# Altium schematic symbol library Intelliclone.SchLib: 488 symbols (part 3 of 6)
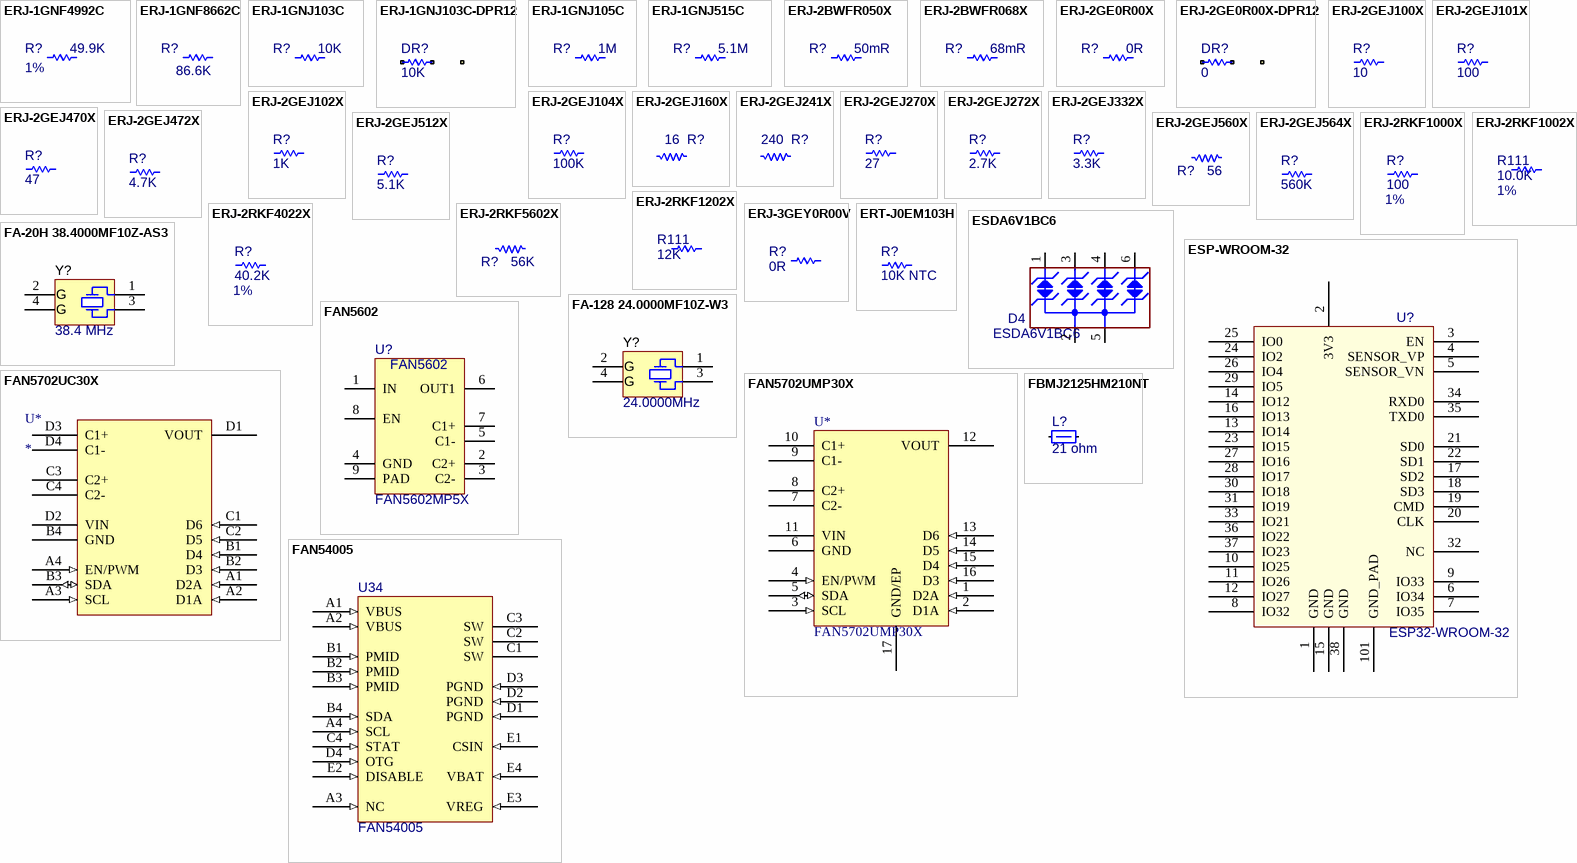
[diagram p23: symbols ERJ-1GNF4992C to FBMJ2125HM210NT]

## FAN54005
designator U34
IC LI-ION SW CHARGER USB 20WLCSP; Manufacturer 1: ON Semiconductor; Manufacturer Part Number 1: FAN54005UCX; CMT Part Number: 100220; Supplier 1: Digi-Key; Supplier Part Number 1: FAN54005UCXCT-ND; Supplier 2: Mouser; Supplier Part Number 2: 512-FAN54005UCX; Value: FAN54005
footprint BGA20C40P4X5_194X219X62 (BGA, 20-Leads, Body 1.94x2.19mmx0.63mm, Pitch 0.40mm)
pins: A1 VBUS (in), A2 VBUS (in), A3 NC (in), A4 SCL (in), B1 PMID (in), B2 PMID (in), B3 PMID (in), B4 SDA (in), C1 SW, C2 SW, C3 SW, C4 STAT (in), D1 PGND (in), D2 PGND (in), D3 PGND (in), D4 OTG (in), E1 CSIN (in), E2 DISABLE (in), E3 VREG (in), E4 VBAT (in)

## FBMJ2125HM210NT
designator L?, comment 21 ohm
FERRITE BEAD 21 OHM 0805 1LN; Manufacturer Part Number 1: FBMJ2125HM210NT; Manufacturer 1: Taiyo Yuden; Imax_A: 6; DCR_ohm: 0.004; CompType: Ferrite Bead; ComponentLink1Description: Datasheet link; ComponentLink1URL: http://www.yuden.co.jp/us/product/pdf/efbm_e.pdf; Supplier 1: Digi-Key; Supplier Part Number 1: 587-3848-1-ND; Value: 21 ohm
footprint 0805_HV (0805 with 30mil clearance between pads)
footprint 0805
footprint 0805M
footprint 0805L
pins: 1, 2

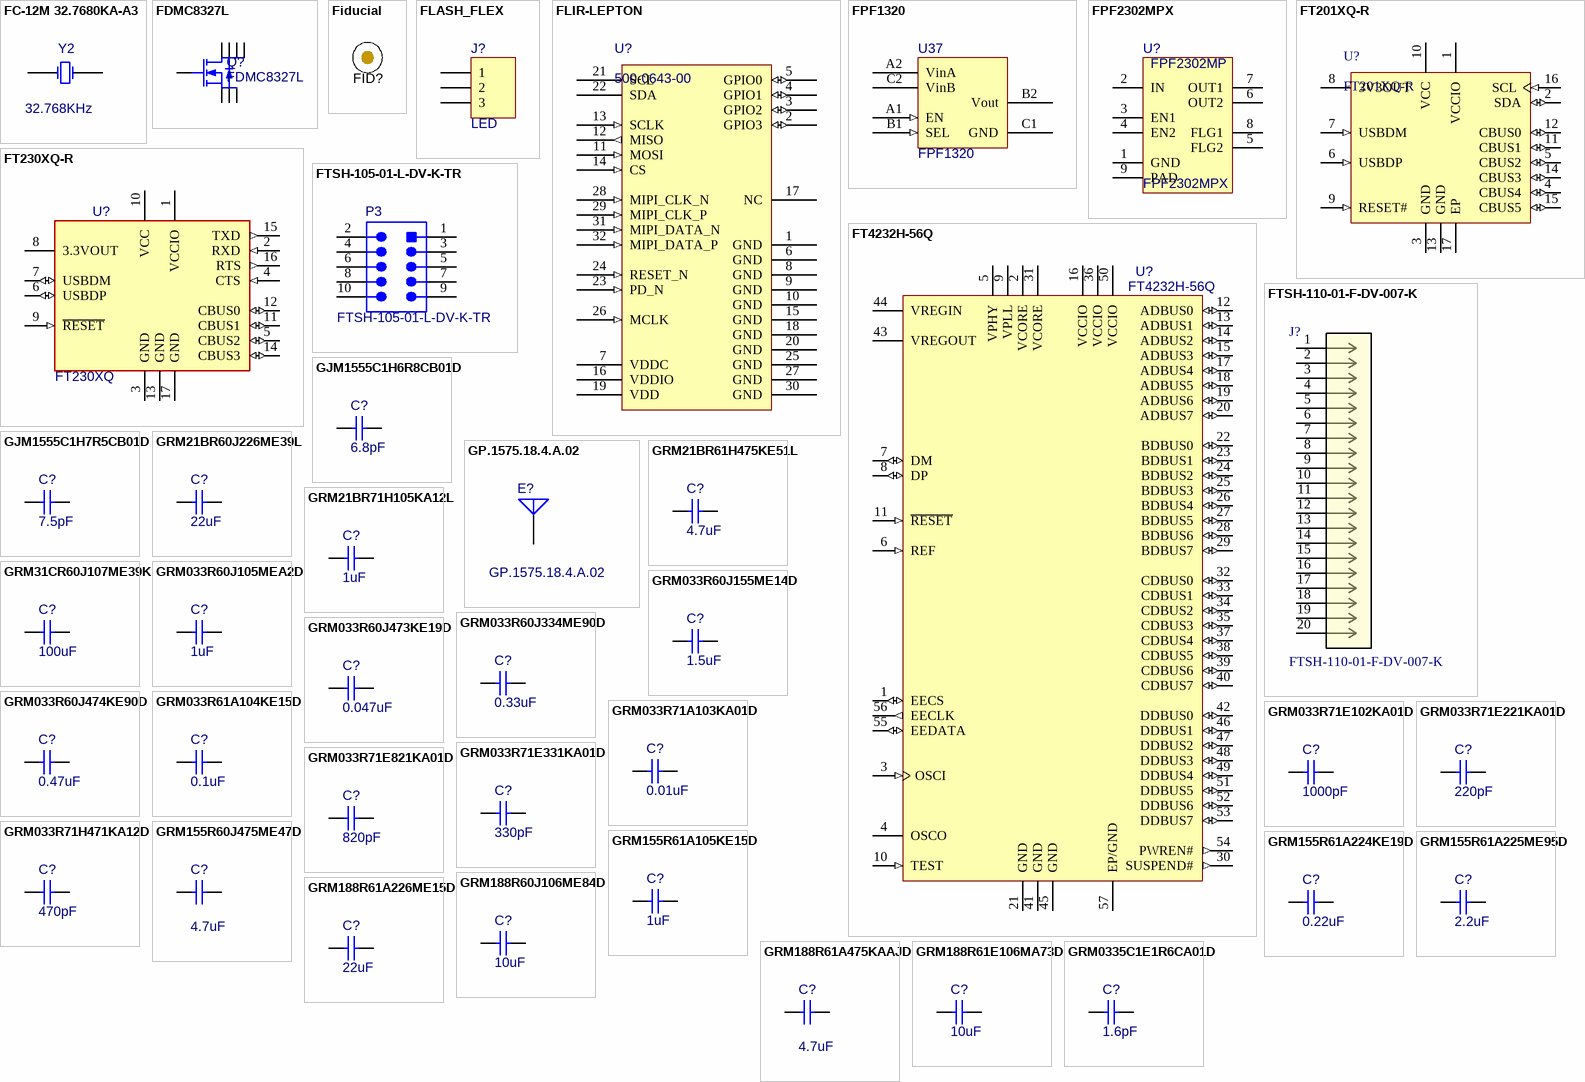
[diagram p7: symbols FC-12M 32.7680KA-A3 to GRM0335C1E1R6CA01D]

## FC-12M 32.7680KA-A3
designator Y2, comment 32.768KHz
CRYSTAL 32.7680KHZ 12.5PF SMD; Manufacturer Part Number 1: FC-12M 32.7680KA-A3; Manufacturer 1: Epson; CMT Part Number: 100239; Frequency Stability: ±20ppm; CompType: Crystal; ComponentLink1Description: Datasheet Link; ComponentLink1URL: http://www.eea.epson.com/portal/pls/portal/docs/1/1587453.PDF; Supplier 1: Digi-Key; Supplier Part Number 1: SER3672CT-ND; Frequency: 32.768KHz; Value: 32.768KHz
footprint Epson_FC-12M
pins: 1 OSC1, 2 OSC2

## FDMC8327L
designator Q?
MOSFET N-CH 40V 12A 8MLP; Manufacturer 1: Vishay; Manufacturer Part Number 1: FDMC8327L; Value: FDMC8327L; Supplier 1: Digi-Key; Supplier Part Number 1: FDMC8327LCT-ND
simulation model PMOS (MOSFET-P)
footprint SON65P320X80-8N (SON, 8-Leads, Body 3.20x3.20mm, Pitch 0.65mm, IPC Medium Density)
pins: 1 S, 2 S, 3 S, 4 G, 5 D, 6 D, 7 D, 8 D

## Fiducial
designator FID?  (value not drawn)  (no BOM)
FIDUCIAL NO ASSEMBLY; Manufacturer 1: NONE; Value: Fiducial; Manufacturer Part Number 1: NONE
footprint Fiducial10-30
footprint Fiducial10-20
footprint Fiducial15-30
footprint Fiducial20-40
footprint Fiducial6.4-20

## FLASH_FLEX
designator J?, comment LED
UGS FLASH FLEX ASSEMBLY; Manufacturer 1: SBT; Manufacturer Part Number 1: FLASH_FLEX_ASSEMBLY
signal-integrity model Connector
footprint FLASH_FLEX (Hot Bar Connect for Flash LED)
pins: 1, 2, 3

## FLIR-LEPTON
designator U?, comment 500-0643-00
CONN CAM SOCKET 32POS GOLD; Manufacturer 1: Molex; Manufacturer Part Number 1: 1050281001; Value: 500-0643-00; Supplier 1: Digi-Key; Supplier Part Number 1: WM6827CT-ND
footprint 1050281001 (Molex Camera Module Socket)
footprint 1050281001 (Molex Camera Module Socket)
pins: 1 GND (power), 2 GPIO3 (io), 3 GPIO2 (io), 4 GPIO1 (io), 5 GPIO0 (io), 6 GND (power), 7 VDDC (power), 8 GND (power), 9 GND (power), 10 GND (power), 11 MOSI (in), 12 MISO (out), 13 SCLK (in), 14 CS (in), 15 GND (power), 16 VDDIO (power), 17 NC, 18 GND (power), 19 VDD (power), 20 GND (power), 21 SCL (oc), 22 SDA (oc), 23 PD_N (in), 24 RESET_N (in), 25 GND (power), 26 MCLK (in), 27 GND (power), 28 MIPI_CLK_N (in), 29 MIPI_CLK_P (in), 30 GND (power), 31 MIPI_DATA_N (in), 32 MIPI_DATA_P (in)

## FPF1320
designator U37
IC ADVANCED POWER SWITCH 6WLCSP; Manufacturer Part Number 1: FPF1320UCX; Manufacturer 1: ON Semiconductor / Fairchild; CMT Part Number: 100249; Max Input Voltage: 5.5V; Max Output Current: 1.5A; ComponentLink1Description: ON Semi FPF1320; ComponentLink1URL: https://www.onsemi.com/PowerSolutions/product.do?id=FPF1320; Supplier 1: Digi-Key; Supplier Part Number 1: FPF1320UCXDKR-ND; Value: FPF1320
footprint BGA6C50P2X3_96X146X62 (BGA, 6-Leads, Body 0.96x1.46mmx0.63mm, Pitch 0.50mm)
pins: A1 EN (in), A2 VinA (power), B1 SEL (in), B2 Vout (power), C1 GND (power), C2 VinB (power)

## FPF2302MPX
designator U?
IC LOAD SW 2CH LATCH-OFF 8-MLP; Manufacturer 1: Fairchild; Manufacturer Part Number 1: FPF2302MPX; Value: FPF2302MPX; Supplier 1: Digi-Key; Supplier Part Number 1: FPF2302MPXCT-ND; Supplier 2: Mouser; Supplier Part Number 2: 512-FPF2302MPX
footprint QFN65P300X300X60_HS-9N (QFN, 8-Leads, Body 3.00x3.00mm, Pitch 0.65mm, Thermal Pad 1.50x2.25mm, IPC Medium Density)
pins: 1 GND, 2 IN, 3 EN1, 4 EN2, 5 FLG2, 6 OUT2, 7 OUT1, 8 FLG1, 9 PAD
text: FPF2302MP

## FT201XQ-R
designator U?
USB to I2C Interface Slave Chip, 16-Pin QFN, UHCI/OHCI/EHCI Compatible, USB 2.0 Compatible, -40â°C to +85â°C, Pb-Free, Tape and Reel; Manufacturer 1: FTDI; ComponentLink3Description: FT201X Product Page; ComponentLink2Description: Datasheet; ComponentLink1URL: http://www.ftdichip.com/; ComponentLink1Description: Manufacturer URL; ComponentLink3URL: www.ftdichip.com/Products/ICs/FT201X.html; ComponentLink2URL: http://www.ftdichip.com/Support/Documents/DataSheets/ICs/DS_FT201X.pdf; Supplier 1: Digi-Key; Manufacturer Part Number 1: FT201XQ-R; Supplier Part Number 1: 768-1131-6-ND
footprint QFN-16_N (QFN, 16-Leads, Body 4x4mm, Pitch 0.65mm, Thermal Pad 2.1x2.1mm, IPC Medium Density)
footprint QFN-16_L (QFN, 16-Leads, Body 4x4mm, Pitch 0.65mm, Thermal Pad 2.1x2.1mm, IPC High Density)
footprint QFN-16_M (QFN, 16-Leads, Body 4x4mm, Pitch 0.65mm, Thermal Pad 2.1x2.1mm, IPC Low Density)
pins: 1 VCCIO (power) "1V8 -3V3 supply for the IO cells.", 2 SDA (io) "I2C bi-directional data line.", 3 GND (power) "0V Ground input.", 4 CBUS4 (io) "Configurable CBUS I/O Pin. Function of this pin is configured in the device MTP memory.", 5 CBUS2 (io) "Configurable CBUS I/O Pin. Function of this pin is configured in the device MTP memory.", 6 USBDP (in) "USB Data Signal Plus.", 7 USBDM (in) "USB Data Signal Minus.", 8 3V3OUT (power) "3V3 output at 50mA. May be used to power VCCIO. When VCC is 3V3; pin 8 is an input pin. Connect to pin 10.", 9 RESET# (in) "Reset input (active low).", 10 VCC (power) "5 V (or 3V3) supply to IC.", 11 CBUS1 (io) "Configurable CBUS I/O Pin. Function of this pin is configured in the device MTP memory.", 12 CBUS0 (io) "Configurable CBUS I/O Pin. Function of this pin is configured in the device MTP memory.", 13 GND (power) "0V Ground input.", 14 CBUS3 (io) "Configurable CBUS I/O Pin. Function of this pin is configured in the device MTP memory.", 15 CBUS5 (io) "Configurable CBUS I/O Pin. Function of this pin is configured in the device MTP memory.", 16 SCL (in) "I2C clock input.", 17 EP (power) "Exposed Pad. Connect to GND."

## FT230XQ-R
designator U?, comment FT230XQ
IC USB SERIAL BASIC UART 16QFN; Manufacturer 1: FTDI; Manufacturer Part Number 1: FT230XQ-R; Value: FT230XQ; Supplier 1: Digi-Key; Supplier Part Number 1: 768-1130-1-ND; Supplier 2: Mouser; Supplier Part Number 2: 895-FT230XQ-R
footprint QFN65P400X400X85_HS-17N (QFN, 16-Leads, Body 4.00x4.00mm, Pitch 0.65mm, Thermal Pad 2.08x2.08mm, IPC Medium Density)
pins: 1 VCCIO (power), 2 RXD (in), 3 GND (power), 4 CTS (in), 5 CBUS2 (io), 6 USBDP (io), 7 USBDM (io), 8 3.3VOUT (power), 9 ~{RESET} (in), 10 VCC (power), 11 CBUS1 (io), 12 CBUS0 (io), 13 GND (power), 14 CBUS3 (io), 15 TXD (out), 16 RTS (out), 17 GND (power)

## FT4232H-56Q
designator U?
IC USB TO UART/MPSSE QUAD 56VQFN; Manufacturer 1: FTDI; Manufacturer Part Number 1: FT4232H-56Q-REEL; ComponentLink1Description: Manufacturer URL; ComponentLink1URL: http://www.ftdichip.com/; ComponentLink2URL: http://www.ftdichip.com/Support/Documents/DataSheets/ICs/DS_FT4232H.pdf; ComponentLink2Description: Datasheet; Supplier 1: Digi-Key; Supplier Part Number 1: FT4232H-56Q-REEL-ND; Value: FT4232H-56Q
footprint VQFN8x8-56 (VQFN, 56-Leads, Body 8.0x8.0mm, Pitch 0.50mm)
pins: 1 EECS (io), 2 VCORE (power), 3 OSCI (in), 4 OSCO, 5 VPHY (power), 6 REF (in), 7 DM (io), 8 DP (io), 9 VPLL (power), 10 TEST (in), 11 ~{RESET} (in), 12 ADBUS0 (io), 13 ADBUS1 (io), 14 ADBUS2 (io), 15 ADBUS3 (io), 16 VCCIO (power), 17 ADBUS4 (io), 18 ADBUS5 (io), 19 ADBUS6 (io), 20 ADBUS7 (io), 21 GND (power), 22 BDBUS0 (io), 23 BDBUS1 (io), 24 BDBUS2 (io), 25 BDBUS3 (io), 26 BDBUS4 (io), 27 BDBUS5 (io), 28 BDBUS6 (io), 29 BDBUS7 (io), 30 SUSPEND# (out), 31 VCORE (power), 32 CDBUS0 (io), 33 CDBUS1 (io), 34 CDBUS2 (io), 35 CDBUS3 (io), 36 VCCIO (power), 37 CDBUS4 (io), 38 CDBUS5 (io), 39 CDBUS6 (io), 40 CDBUS7 (io), 41 GND (power), 42 DDBUS0 (io), 43 VREGOUT (power), 44 VREGIN (power), 45 GND (power), 46 DDBUS1 (io), 47 DDBUS2 (io), 48 DDBUS3 (io), 49 DDBUS4 (io), 50 VCCIO (power), 51 DDBUS5 (io), 52 DDBUS6 (io), 53 DDBUS7 (io), 54 PWREN# (out), 55 EEDATA (io), 56 EECLK (out), 57 EP/GND (power)

## FTSH-105-01-L-DV-K-TR
designator P3
CONN HEADER 10POS DUAL .05" SMD; Manufacturer 1: Samtec; Pitch: 1.27mm; Number of Positions: 10; Connector Type: Male Pin; Manufacturer Part Number 1: FTSH-105-01-L-DV-K-TR; Supplier Part Number 1: SAM13165TR-ND; Supplier 1: Digi-Key; Number of Rows: 2; Value: FTSH-105-01-L-DV-K-TR
footprint SMTC-FTSH-105-01-L-DV-K_V (CONN, 10-Leads, Body 6.35x3.43mm, Pitch 1.27mm)
pins: 1, 2, 3, 4, 5, 6, 7, 8, 9, 10

## FTSH-110-01-F-DV-007-K
designator J?
CONN HEADER 19POS DUAL .05" SMD PIN7 KEY; Manufacturer 1: Samtec; Supplier 1: Digi-Key; Manufacturer Part Number 1: FTSH-110-01-F-DV-007-K; Supplier Part Number 1: SAM11264-ND
footprint CON20_2X10_DUK_F
pins: 1, 2, 3, 4, 5, 6, 7, 8, 9, 10, 11, 12, 13, 14, 15, 16, 17, 18, 19, 20

## GJM1555C1H6R8CB01D
designator C?, comment 6.8pF
CAP CER 6.8PF 50V NP0 0402; Manufacturer 1: Murata; Manufacturer Part Number 1: GJM1555C1H6R8CB01D; Supplier 1: Digi-Key; Supplier Part Number 1: 490-3106-1-ND; Supplier 2: Mouser; Supplier Part Number 2: 81-GJM1555C1H6R8CB01; Value: 6.8pF
footprint CC1608-0603
simulation model CAP (Capacitor)
signal-integrity model Cap
footprint RESC0603L
footprint RESC1608L
footprint RESC3216L
footprint CAPC2512N
footprint 0603
footprint 0603_MOD
footprint 0402-TIGHT (For packing)
footprint 0402 Capacitor
pins: 1, 2

## GJM1555C1H7R5CB01D
designator C?, comment 7.5pF
CAP CER 7.5PF 50V NP0 0402; Manufacturer 1: Murata; Manufacturer Part Number 1: GJM1555C1H7R5CB01D; Supplier 1: Digi-Key; Supplier Part Number 1: 490-3108-1-ND; Supplier 2: Mouser; Supplier Part Number 2: 81-GJM1555C1H7R5CB01; Value: 7.5pF
footprint CC1608-0603
simulation model CAP (Capacitor)
signal-integrity model Cap
footprint RESC0603L
footprint RESC1608L
footprint RESC3216L
footprint CAPC2512N
footprint 0603
footprint 0603_MOD
footprint 0402-TIGHT (For packing)
footprint 0402 Capacitor
pins: 1, 2

## GP.1575.18.4.A.02
designator E?
ANTENNA PATCH GPS PIN FED; Manufacturer 1: Taoglas; Manufacturer Part Number 1: GP.1575.18.4.A.02; Value: GP.1575.18.4.A.02; Supplier 1: Digi-Key; Supplier Part Number 1: 931-1019-ND; Supplier 2: Mouser; Supplier Part Number 2: 960-GP1575184A02
footprint GP.1575.18.4.A.02 (ANTENNA PATCH GPS PIN FED)
pins: 1 A

## GRM21BR60J226ME39L
designator C?, comment 22uF
CAP CER 22UF 6.3V 20% X5R 0805; Manufacturer Part Number 1: GRM21BR60J226ME39L; Manufacturer 1: Murata; Supplier 1: Digi-Key; Supplier Part Number 1: 490-1719-1-ND; Supplier 2: Mouser; Supplier Part Number 2: 81-GRM21R60J226ME39L; Value: 22uF
footprint CAPC3216L (Chip Capacitor, Body 3.2x1.6mm, IPC High Density)
footprint CAPC1005L (Chip Capacitor, Body 1.0x0.5mm, IPC High Density)
footprint CAPC2512L (Chip Capacitor, Body 2.54x1.27mm, IPC High Density)
footprint CAPC1608L (Chip Capacitor, Body 1.6x0.8mm, IPC High Density)
footprint CAPC3225L (Chip Capacitor, Body 3.2x2.5mm, IPC High Density)
simulation model CAP (Semiconductor Capacitor)
signal-integrity model Cap Semi
footprint 01005-TIGHT
footprint 0201-TIGHT
footprint C0603 (Chip Capacitor; Body 1.6 x 0.8 mm (LxW typ))
footprint CC0805
pins: 1, 2

## GRM21BR61H475KE51L
designator C?, comment 4.7uF
CAP CER 4.7UF 50V X5R 0805; Manufacturer 1: Murata; Manufacturer Part Number 1: GRM21BR61H475KE51L; Part Type: Chip Capacitor; Supplier 1: Digi-Key; Supplier Part Number 1: 490-10751-1-ND; Value: 4.7uF
simulation model CAP (Semiconductor Capacitor)
signal-integrity model Cap Semi
footprint 0805_145 (0805 / 1.45mm height)
pins: 1, 2

## GRM21BR71H105KA12L
designator C?, comment 1uF
CAP CER 1UF 50V 10% X7R 0805; Manufacturer 1: Murata; Manufacturer Part Number 1: GRM21BR71H105KA12L; Part Type: Chip Capacitor; Supplier 1: Digi-Key; Supplier Part Number 1: 490-4736-1-ND; Supplier 2: Mouser; Supplier Part Number 2: 81-GRM21BR71H105KA2L; Value: 1uF
footprint CAPC3216L (Chip Capacitor, Body 3.2x1.6mm, IPC High Density)
footprint CAPC1005L (Chip Capacitor, Body 1.0x0.5mm, IPC High Density)
footprint CAPC2512L (Chip Capacitor, Body 2.54x1.27mm, IPC High Density)
footprint CAPC1608L (Chip Capacitor, Body 1.6x0.8mm, IPC High Density)
footprint CAPC3225L (Chip Capacitor, Body 3.2x2.5mm, IPC High Density)
simulation model CAP (Semiconductor Capacitor)
signal-integrity model Cap Semi
footprint 01005-TIGHT
footprint 0201-TIGHT
footprint C0805 (Footprint not found)
pins: 1, 2

## GRM31CR60J107ME39K
designator C?, comment 100uF
CAP CER 100UF 6.3V X5R 1206; Manufacturer Part Number 1: GRM31CR60J107ME39K; Manufacturer 1: Murata; Supplier 1: Digi-Key; Supplier Part Number 1: 490-7217-1-ND; Value: 100uF
footprint CAPC3216L (Chip Capacitor, Body 3.2x1.6mm, IPC High Density)
footprint CAPC1005L (Chip Capacitor, Body 1.0x0.5mm, IPC High Density)
footprint CAPC2512L (Chip Capacitor, Body 2.54x1.27mm, IPC High Density)
footprint CAPC1608L (Chip Capacitor, Body 1.6x0.8mm, IPC High Density)
footprint CAPC3225L (Chip Capacitor, Body 3.2x2.5mm, IPC High Density)
simulation model CAP (Semiconductor Capacitor)
signal-integrity model Cap Semi
footprint 01005-TIGHT
footprint 0201-TIGHT
footprint C0603 (Chip Capacitor; Body 1.6 x 0.8 mm (LxW typ))
footprint CC0805
footprint CAPC3216X19N (Footprint not found)
pins: 1, 2

## GRM033R60J105MEA2D
designator C?, comment 1uF
CAP CER 1UF 6.3V X5R 0201; Manufacturer Part Number 1: GRM033R60J105MEA2D; Manufacturer 1: Murata; Part Type: Chip Capacitor; Voltage: 6.3V; Supplier 1: Digi-Key; Supplier Part Number 1: 490-7229-1-ND; Value: 1uF
footprint CAPC3216L (Chip Capacitor, Body 3.2x1.6mm, IPC High Density)
footprint CAPC1005L (Chip Capacitor, Body 1.0x0.5mm, IPC High Density)
footprint CAPC2512L (Chip Capacitor, Body 2.54x1.27mm, IPC High Density)
footprint CAPC1608L (Chip Capacitor, Body 1.6x0.8mm, IPC High Density)
footprint CAPC3225L (Chip Capacitor, Body 3.2x2.5mm, IPC High Density)
simulation model CAP (Semiconductor Capacitor)
signal-integrity model Cap Semi
footprint 01005-TIGHT
footprint 0201-TIGHT
footprint 0402-TIGHT (For packing)
footprint 0402 Capacitor
footprint 0402CS-RADIO
footprint 0201_CAPACITOR (0201 Standard Footprint)
pins: 1, 2

## GRM033R60J155ME14D
designator C?, comment 1.5uF
CAP CER 1.5UF 6.3V X5R 0201; Manufacturer Part Number 1: GRM033R60J155ME14D; Manufacturer 1: Murata; Part Type: Chip Capacitor; Voltage: 6.3V; Supplier 1: Digi-Key; Supplier Part Number 1: 490-13223-1-ND; Value: 1.5uF
footprint CAPC3216L (Chip Capacitor, Body 3.2x1.6mm, IPC High Density)
footprint CAPC1005L (Chip Capacitor, Body 1.0x0.5mm, IPC High Density)
footprint CAPC2512L (Chip Capacitor, Body 2.54x1.27mm, IPC High Density)
footprint CAPC1608L (Chip Capacitor, Body 1.6x0.8mm, IPC High Density)
footprint CAPC3225L (Chip Capacitor, Body 3.2x2.5mm, IPC High Density)
simulation model CAP (Semiconductor Capacitor)
signal-integrity model Cap Semi
footprint 01005-TIGHT
footprint 0201-TIGHT
footprint 0402-TIGHT (For packing)
footprint 0402 Capacitor
footprint 0402CS-RADIO
footprint 0201_CAPACITOR (0201 Standard Footprint)
pins: 1, 2

## GRM033R60J334ME90D
designator C?, comment value 0.33uF  (hidden comment: 0.1uF)
CAP CER 0.33UF 6.3V X5R 0201; Manufacturer Part Number 1: GRM033R60J334ME90D; Manufacturer 1: Murata; Voltage: 10V; Part Type: Chip Capacitor; Supplier 1: Digi-Key; Supplier Part Number 1: 490-10408-1-ND
footprint CAPC3216L (Chip Capacitor, Body 3.2x1.6mm, IPC High Density)
footprint CAPC1005L (Chip Capacitor, Body 1.0x0.5mm, IPC High Density)
footprint CAPC2512L (Chip Capacitor, Body 2.54x1.27mm, IPC High Density)
footprint CAPC1608L (Chip Capacitor, Body 1.6x0.8mm, IPC High Density)
footprint CAPC3225L (Chip Capacitor, Body 3.2x2.5mm, IPC High Density)
simulation model CAP (Semiconductor Capacitor)
signal-integrity model Cap Semi
footprint 01005-TIGHT
footprint 0201-TIGHT
footprint 0402-TIGHT (For packing)
footprint 0402 Capacitor
footprint 0402CS-RADIO
footprint 0201_CAPACITOR (0201 Standard Footprint)
pins: 1, 2

## GRM033R60J473KE19D
designator C?, comment 0.047uF
CAP CER 0.047UF 6.3V X5R 0201; Manufacturer Part Number 1: GRM033R60J473KE19D; Manufacturer 1: Murata; Supplier 1: Digi-Key; Supplier Part Number 1: 490-6140-1-ND; Part Type: Chip Capacitor; Value: 0.047uF
footprint CC1608-0603
simulation model CAP (Capacitor)
signal-integrity model Cap
footprint RESC0603L
footprint RESC1608L
footprint RESC3216L
footprint CAPC2512N
footprint 0603
footprint 0603_MOD
footprint 0402-TIGHT (For packing)
footprint 0402 Capacitor
footprint 0201_capacitor (0201 Standard Footprint)
pins: 1, 2

## GRM033R60J474KE90D
designator C?, comment 0.47uF
CAP CER 0.47UF 6.3V X5R 0201; Manufacturer Part Number 1: GRM033R60J474KE90D; Manufacturer 1: Murata; Supplier 1: Digi-Key; Supplier Part Number 1: 490-10409-1-ND; Part Type: Chip Capacitor; Value: 0.47uF
footprint CC1608-0603
simulation model CAP (Capacitor)
signal-integrity model Cap
footprint RESC0603L
footprint RESC1608L
footprint RESC3216L
footprint CAPC2512N
footprint 0603
footprint 0603_MOD
footprint 0402-TIGHT (For packing)
footprint 0402 Capacitor
footprint 0201_capacitor (0201 Standard Footprint)
pins: 1, 2

## GRM033R61A104KE15D
designator C?, comment 0.1uF
CAP CER 0.1UF 10V 10% X5R 0201; Manufacturer Part Number 1: GRM033R61A104KE15D; Manufacturer 1: Murata; CMT Part Number: 100148; Part Type: Chip Capacitor; Voltage: 10V; Supplier 1: Digi-Key; Supplier Part Number 1: 490-5881-1-ND; Value: 0.1uF
footprint CAPC3216L (Chip Capacitor, Body 3.2x1.6mm, IPC High Density)
footprint CAPC1005L (Chip Capacitor, Body 1.0x0.5mm, IPC High Density)
footprint CAPC2512L (Chip Capacitor, Body 2.54x1.27mm, IPC High Density)
footprint CAPC1608L (Chip Capacitor, Body 1.6x0.8mm, IPC High Density)
footprint CAPC3225L (Chip Capacitor, Body 3.2x2.5mm, IPC High Density)
simulation model CAP (Semiconductor Capacitor)
signal-integrity model Cap Semi
footprint 01005-TIGHT
footprint 0201-TIGHT
footprint 0402-TIGHT (For packing)
footprint 0402 Capacitor
footprint 0402CS-RADIO
footprint 0201_CAPACITOR (0201 Standard Footprint)
pins: 1, 2

## GRM033R71A103KA01D
designator C?, comment 0.01uF
CAP CER 10000PF 10V X7R 0201; Manufacturer Part Number 1: GRM033R71A103KA01D; Manufacturer 1: Murata; CMT Part Number: 100230; Supplier 1: Digi-Key; Supplier Part Number 1: 490-3194-1-ND; Value: 0.01uF
footprint CC1608-0603
simulation model CAP (Capacitor)
signal-integrity model Cap
footprint RESC0603L
footprint RESC1608L
footprint RESC3216L
footprint CAPC2512N
footprint 0603
footprint 0603_MOD
footprint 0402-TIGHT (For packing)
footprint 0402 Capacitor
footprint 0201_capacitor (0201 Standard Footprint)
pins: 1, 2

## GRM033R71E102KA01D
designator C?, comment 1000pF
CAP CER 1000PF 25V X7R 0201; Manufacturer Part Number 1: GRM033R71E102KA01D; Manufacturer 1: Murata; Supplier 1: Digi-Key; Supplier Part Number 1: 490-3184-1-ND; Value: 1000pF
footprint CC1608-0603
simulation model CAP (Capacitor)
signal-integrity model Cap
footprint RESC0603L
footprint RESC1608L
footprint RESC3216L
footprint CAPC2512N
footprint 0603
footprint 0603_MOD
footprint 0402-TIGHT (For packing)
footprint 0402 Capacitor
footprint 0201_capacitor (0201 Standard Footprint)
pins: 1, 2

## GRM033R71E221KA01D
designator C?, comment 220pF
CAP CER 220PF 25V X7R 0201; Manufacturer Part Number 1: GRM033R71E221KA01D; Manufacturer 1: Murata; Supplier 1: Digi-Key; Supplier Part Number 1: 490-3176-1-ND; Value: 220pF
footprint CC1608-0603
simulation model CAP (Capacitor)
signal-integrity model Cap
footprint RESC0603L
footprint RESC1608L
footprint RESC3216L
footprint CAPC2512N
footprint 0603
footprint 0603_MOD
footprint 0402-TIGHT (For packing)
footprint 0402 Capacitor
footprint 0201_capacitor (0201 Standard Footprint)
pins: 1, 2

## GRM033R71E331KA01D
designator C?, comment 330pF
CAP CER 330PF 25V X7R 0201; Manufacturer Part Number 1: GRM033R71E331KA01D; Manufacturer 1: Murata; Supplier 1: Digi-Key; Supplier Part Number 1: 490-3178-1-ND; Value: 330pF
footprint CC1608-0603
simulation model CAP (Capacitor)
signal-integrity model Cap
footprint RESC0603L
footprint RESC1608L
footprint RESC3216L
footprint CAPC2512N
footprint 0603
footprint 0603_MOD
footprint 0402-TIGHT (For packing)
footprint 0402 Capacitor
footprint 0201_capacitor (0201 Standard Footprint)
pins: 1, 2

## GRM033R71E821KA01D
designator C?, comment 820pF
CAP CER 820PF 25V X7R 0201; Manufacturer Part Number 1: GRM033R71E821KA01D; Manufacturer 1: Murata; Supplier 1: Digi-Key; Supplier Part Number 1: 490-3183-1-ND; Value: 820pF
footprint CC1608-0603
simulation model CAP (Capacitor)
signal-integrity model Cap
footprint RESC0603L
footprint RESC1608L
footprint RESC3216L
footprint CAPC2512N
footprint 0603
footprint 0603_MOD
footprint 0402-TIGHT (For packing)
footprint 0402 Capacitor
footprint 0201_capacitor (0201 Standard Footprint)
pins: 1, 2

## GRM033R71H471KA12D
designator C?, comment 470pF
CAP CER 470PF 50V X7R 0201; Manufacturer Part Number 1: GRM033R71H471KA12D; Manufacturer 1: Murata; Supplier 1: Digi-Key; Supplier Part Number 1: 490-12690-1-ND; Value: 470pF
footprint CC1608-0603
simulation model CAP (Capacitor)
signal-integrity model Cap
footprint RESC0603L
footprint RESC1608L
footprint RESC3216L
footprint CAPC2512N
footprint 0603
footprint 0603_MOD
footprint 0402-TIGHT (For packing)
footprint 0402 Capacitor
footprint 0201_capacitor (0201 Standard Footprint)
pins: 1, 2

## GRM155R60J475ME47D
designator C?, comment 4.7uF
CAP CER 4.7UF 6.3V 20% X5R 0402; Manufacturer 1: Murata; Manufacturer Part Number 1: GRM155R60J475ME47D; CMT Part Number: 100151; Part Type: Chip Capacitor; Supplier 1: Digi-Key; Supplier Part Number 1: 490-5915-1-ND; Value: 4.7uF
footprint CAPC3216L (Chip Capacitor, Body 3.2x1.6mm, IPC High Density)
footprint CAPC1005L (Chip Capacitor, Body 1.0x0.5mm, IPC High Density)
footprint CAPC2512L (Chip Capacitor, Body 2.54x1.27mm, IPC High Density)
footprint CAPC1608L (Chip Capacitor, Body 1.6x0.8mm, IPC High Density)
footprint CAPC3225L (Chip Capacitor, Body 3.2x2.5mm, IPC High Density)
simulation model CAP (Semiconductor Capacitor)
signal-integrity model Cap Semi
footprint 01005-TIGHT
footprint 0201-TIGHT
footprint 0402-TIGHT (For packing)
footprint 0402 Capacitor
pins: 1, 2

## GRM155R61A105KE15D
designator C?, comment 1uF
CAP CER 1UF 10V X5R 0402; Manufacturer Part Number 1: GRM155R61A105KE15D; Manufacturer 1: Murata; CMT Part Number: 100152; Part Type: Chip Capacitor; Voltage: 10V; Supplier 1: Digi-Key; Supplier Part Number 1: 490-3890-1-ND; Value: 1uF
footprint CAPC3216L (Chip Capacitor, Body 3.2x1.6mm, IPC High Density)
footprint CAPC1005L (Chip Capacitor, Body 1.0x0.5mm, IPC High Density)
footprint CAPC2512L (Chip Capacitor, Body 2.54x1.27mm, IPC High Density)
footprint CAPC1608L (Chip Capacitor, Body 1.6x0.8mm, IPC High Density)
footprint CAPC3225L (Chip Capacitor, Body 3.2x2.5mm, IPC High Density)
simulation model CAP (Semiconductor Capacitor)
signal-integrity model Cap Semi
footprint 01005-TIGHT
footprint 0201-TIGHT
footprint 0402-TIGHT (For packing)
footprint 0402 Capacitor
footprint 0402CS-RADIO
footprint 0201_CAPACITOR (0201 Standard Footprint)
pins: 1, 2

## GRM155R61A224KE19D
designator C?, comment 0.22uF
CAP CER 0.22UF 10V 10% X5R 0402; Manufacturer 1: Murata; Manufacturer Part Number 1: GRM155R61A224KE19D; CMT Part Number: 100231; Supplier 1: Digi-Key; Supplier Part Number 1: 490-3910-1-ND; Supplier 2: Mouser; Supplier Part Number 2: 81-GRM155R61A224KE19; Value: 0.22uF
footprint CC1608-0603
simulation model CAP (Capacitor)
signal-integrity model Cap
footprint RESC0603L
footprint RESC1608L
footprint RESC3216L
footprint CAPC2512N
footprint 0603
footprint 0603_MOD
footprint 0402-TIGHT (For packing)
footprint 0402 Capacitor
pins: 1, 2

## GRM155R61A225ME95D
designator C?, comment 2.2uF
CAP CER 2.2UF 10V 20% X5R 0402; Manufacturer Part Number 1: GRM155R61A225ME95D; Manufacturer 1: Murata; CMT Part Number: 100150; Part Type: Chip Capacitor; Supplier 1: Digi-Key; Supplier Part Number 1: 490-10452-1-ND; Value: 2.2uF
footprint CAPC3216L (Chip Capacitor, Body 3.2x1.6mm, IPC High Density)
footprint CAPC1005L (Chip Capacitor, Body 1.0x0.5mm, IPC High Density)
footprint CAPC2512L (Chip Capacitor, Body 2.54x1.27mm, IPC High Density)
footprint CAPC1608L (Chip Capacitor, Body 1.6x0.8mm, IPC High Density)
footprint CAPC3225L (Chip Capacitor, Body 3.2x2.5mm, IPC High Density)
simulation model CAP (Semiconductor Capacitor)
signal-integrity model Cap Semi
footprint 01005-TIGHT
footprint 0201-TIGHT
footprint 0402-TIGHT (For packing)
footprint 0402 Capacitor
footprint 0402CS-RADIO
pins: 1, 2

## GRM188R60J106ME84D
designator C?, comment 10uF
CAP CER 10UF 6.3V 20% X5R 0603; Manufacturer 1: Murata; Manufacturer Part Number 1: GRM188R60J106ME84D; CMT Part Number: 100238; Part Type: Chip Capacitor; Supplier 1: Digi-Key; Supplier Part Number 1: 490-7316-1-ND; Value: 10uF
footprint CAPC3216L (Chip Capacitor, Body 3.2x1.6mm, IPC High Density)
footprint CAPC1005L (Chip Capacitor, Body 1.0x0.5mm, IPC High Density)
footprint CAPC2512L (Chip Capacitor, Body 2.54x1.27mm, IPC High Density)
footprint CAPC1608L (Chip Capacitor, Body 1.6x0.8mm, IPC High Density)
footprint CAPC3225L (Chip Capacitor, Body 3.2x2.5mm, IPC High Density)
simulation model CAP (Semiconductor Capacitor)
signal-integrity model Cap Semi
footprint 01005-TIGHT
footprint 0201-TIGHT
footprint C0603 (Chip Capacitor; Body 1.6 x 0.8 mm (LxW typ))
pins: 1, 2

## GRM188R61A226ME15D
designator C?, comment 22uF
CAP CER 22UF 10V 20% X5R 0603; Manufacturer 1: Murata; Manufacturer Part Number 1: GRM188R61A226ME15D; CMT Part Number: 100156; Part Type: Chip Capacitor; Supplier 1: Digi-Key; Supplier Part Number 1: 490-10476-1-ND; Value: 22uF
footprint CAPC3216L (Chip Capacitor, Body 3.2x1.6mm, IPC High Density)
footprint CAPC1005L (Chip Capacitor, Body 1.0x0.5mm, IPC High Density)
footprint CAPC2512L (Chip Capacitor, Body 2.54x1.27mm, IPC High Density)
footprint CAPC1608L (Chip Capacitor, Body 1.6x0.8mm, IPC High Density)
footprint CAPC3225L (Chip Capacitor, Body 3.2x2.5mm, IPC High Density)
simulation model CAP (Semiconductor Capacitor)
signal-integrity model Cap Semi
footprint 01005-TIGHT
footprint 0201-TIGHT
footprint C0603 (Chip Capacitor; Body 1.6 x 0.8 mm (LxW typ))
pins: 1, 2

## GRM188R61A475KAAJD
designator C?, comment 4.7uF
CAP CER 4.7UF 10V X5R 0603; Manufacturer 1: Murata; Manufacturer Part Number 1: GRM188R61A475KAAJD; CMT Part Number: 100258; Part Type: Chip Capacitor; Supplier 1: Digi-Key; Supplier Part Number 1: 490-14373-1-ND; Value: 4.7uF
simulation model CAP (Semiconductor Capacitor)
signal-integrity model Cap Semi
footprint 0603 for Capacitor (Chip Capacitor, 2-Leads, Body 1.6x0.8mm, IPC Medium Density)
pins: 1, 2

## GRM188R61E106MA73D
designator C?, comment 10uF
CAP CER 10UF 25V X5R 0603; Manufacturer 1: Murata; Manufacturer Part Number 1: GRM188R61E106MA73D; CMT Part Number: 100154; Part Type: Chip Capacitor; Supplier 1: Digi-Key; Supplier Part Number 1: 490-7202-1-ND; Value: 10uF
footprint CAPC3216L (Chip Capacitor, Body 3.2x1.6mm, IPC High Density)
footprint CAPC1005L (Chip Capacitor, Body 1.0x0.5mm, IPC High Density)
footprint CAPC2512L (Chip Capacitor, Body 2.54x1.27mm, IPC High Density)
footprint CAPC1608L (Chip Capacitor, Body 1.6x0.8mm, IPC High Density)
footprint CAPC3225L (Chip Capacitor, Body 3.2x2.5mm, IPC High Density)
simulation model CAP (Semiconductor Capacitor)
signal-integrity model Cap Semi
footprint 01005-TIGHT
footprint 0201-TIGHT
footprint C0603 (Chip Capacitor; Body 1.6 x 0.8 mm (LxW typ))
pins: 1, 2

## GRM0335C1E1R6CA01D
designator C?, comment 1.6pF
CAP CER 1.6PF 25V NP0 0201; Manufacturer 1: Murata; Manufacturer Part Number 1: GRM0335C1E1R6CA01D; Supplier 1: Digi-Key; Supplier Part Number 1: GRM0335C1E1R6CA01D-ND; Value: 1.6pF
footprint CC1608-0603
simulation model CAP (Capacitor)
signal-integrity model Cap
footprint RESC0603L
footprint RESC1608L
footprint RESC3216L
footprint CAPC2512N
footprint 0603
footprint 0603_MOD
footprint 0402-TIGHT (For packing)
footprint 0402 Capacitor
footprint 0201_capacitor (0201 Standard Footprint)
pins: 1, 2

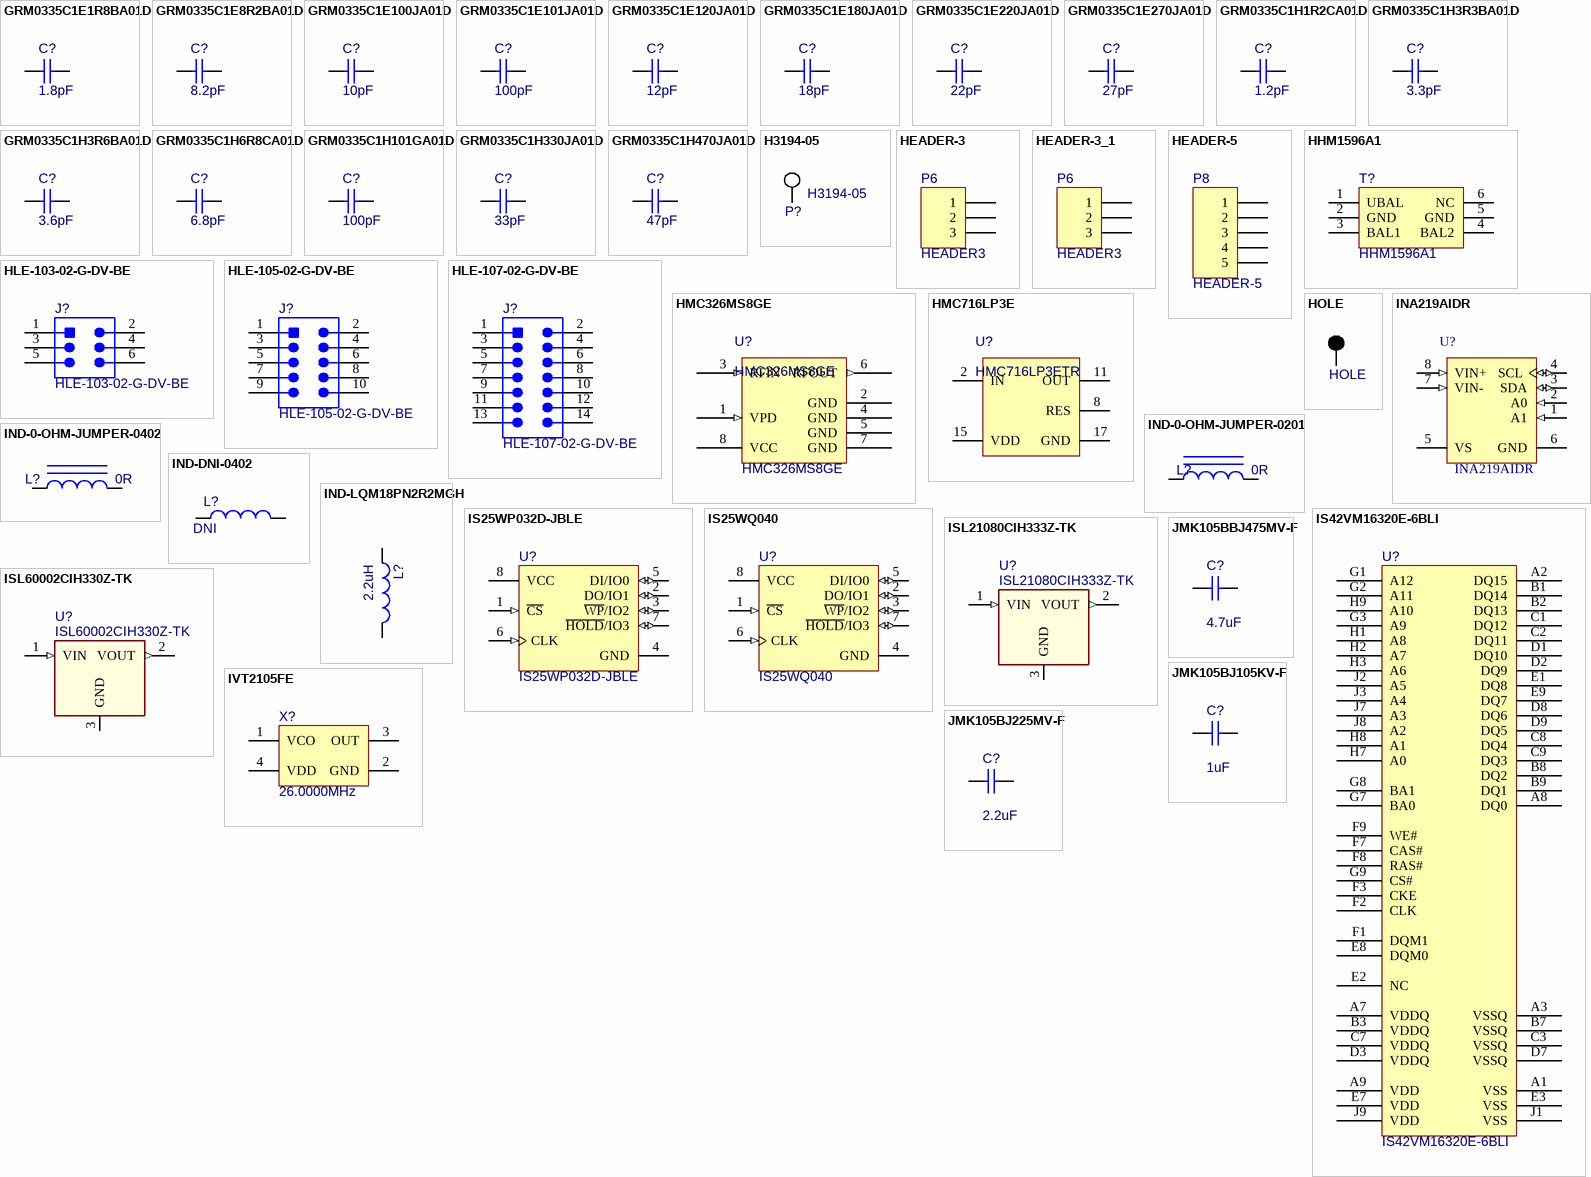
[diagram p8: symbols GRM0335C1E1R8BA01D to JMK105BJ225MV-F]

## GRM0335C1E1R8BA01D
designator C?, comment 1.8pF
CAP CER 1.8PF 25V NP0 0201; Manufacturer Part Number 1: GRM0335C1E1R8BA01D; Manufacturer 1: Murata; CMT Part Number: 100155; Supplier 1: Digi-Key; Supplier Part Number 1: 490-11968-1-ND; Value: 1.8pF
footprint CC1608-0603
simulation model CAP (Capacitor)
signal-integrity model Cap
footprint RESC0603L
footprint RESC1608L
footprint RESC3216L
footprint CAPC2512N
footprint 0603
footprint 0603_MOD
footprint 0402-TIGHT (For packing)
footprint 0402 Capacitor
footprint 0201_capacitor (0201 Standard Footprint)
pins: 1, 2

## GRM0335C1E8R2BA01D
designator C?, comment 8.2pF
CAP CER 8.2PF 25V NP0 0201; Manufacturer Part Number 1: GRM0335C1E8R2BA01D; Manufacturer 1: Murata; Supplier 1: Digi-Key; Supplier Part Number 1: 490-11304-1-ND; Value: 8.2pF
footprint CC1608-0603
simulation model CAP (Capacitor)
signal-integrity model Cap
footprint RESC0603L
footprint RESC1608L
footprint RESC3216L
footprint CAPC2512N
footprint 0603
footprint 0603_MOD
footprint 0402-TIGHT (For packing)
footprint 0402 Capacitor
footprint 0201_capacitor (0201 Standard Footprint)
pins: 1, 2

## GRM0335C1E100JA01D
designator C?, comment 10pF
CAP CER 10PF 100V NP0 0201; Manufacturer Part Number 1: GRM0335C1E100JA01D; Manufacturer 1: Murata; Supplier 1: Digi-Key; Supplier Part Number 1: 490-8607-1-ND; Value: 10pF
footprint CC1608-0603
simulation model CAP (Capacitor)
signal-integrity model Cap
footprint RESC0603L
footprint RESC1608L
footprint RESC3216L
footprint CAPC2512N
footprint 0603
footprint 0603_MOD
footprint 0402-TIGHT (For packing)
footprint 0402 Capacitor
footprint 0201_capacitor (0201 Standard Footprint)
pins: 1, 2

## GRM0335C1E101JA01D
designator C?, comment 100pF
CAP CER 100PF 25V NP0 0201; Manufacturer Part Number 1: GRM0335C1E101JA01D; Manufacturer 1: Murata; Supplier 1: Digi-Key; Supplier Part Number 1: 490-3160-1-ND; Part Type: Chip Capacitor; Value: 100pF
footprint CC1608-0603
simulation model CAP (Capacitor)
signal-integrity model Cap
footprint RESC0603L
footprint RESC1608L
footprint RESC3216L
footprint CAPC2512N
footprint 0603
footprint 0603_MOD
footprint 0402-TIGHT (For packing)
footprint 0402 Capacitor
footprint 0201_capacitor (0201 Standard Footprint)
pins: 1, 2

## GRM0335C1E120JA01D
designator C?, comment 12pF
CAP CER 12PF 25V NP0 0201; Manufacturer 1: Murata; Manufacturer Part Number 1: GRM0335C1E120JA01D; CMT Part Number: 100149; Supplier 1: Digi-Key; Supplier Part Number 1: 490-3144-1-ND; Value: 12pF
footprint CC1608-0603
simulation model CAP (Capacitor)
signal-integrity model Cap
footprint RESC0603L
footprint RESC1608L
footprint RESC3216L
footprint CAPC2512N
footprint 0603
footprint 0603_MOD
footprint 0402-TIGHT (For packing)
footprint 0402 Capacitor
footprint 0201_capacitor (0201 Standard Footprint)
pins: 1, 2

## GRM0335C1E180JA01D
designator C?, comment 18pF
CAP CER 18PF 25V NP0 0201; Manufacturer Part Number 1: GRM0335C1E180JA01D; Manufacturer 1: Murata; Supplier 1: Digi-Key; Supplier Part Number 1: 490-9659-1-ND; Value: 18pF
footprint CC1608-0603
simulation model CAP (Capacitor)
signal-integrity model Cap
footprint RESC0603L
footprint RESC1608L
footprint RESC3216L
footprint CAPC2512N
footprint 0603
footprint 0603_MOD
footprint 0402-TIGHT (For packing)
footprint 0402 Capacitor
footprint 0201_capacitor (0201 Standard Footprint)
pins: 1, 2

## GRM0335C1E220JA01D
designator C?, comment 22pF
CAP CER 22PF 25V NP0 0201; Manufacturer Part Number 1: GRM0335C1E220JA01D; Manufacturer 1: Murata; Supplier 1: Digi-Key; Supplier Part Number 1: 490-1253-1-ND; Value: 22pF
footprint CC1608-0603
simulation model CAP (Capacitor)
signal-integrity model Cap
footprint RESC0603L
footprint RESC1608L
footprint RESC3216L
footprint CAPC2512N
footprint 0603
footprint 0603_MOD
footprint 0402-TIGHT (For packing)
footprint 0402 Capacitor
footprint 0201_capacitor (0201 Standard Footprint)
pins: 1, 2

## GRM0335C1E270JA01D
designator C?, comment 27pF
CAP CER 27PF 25V NP0 0201; Manufacturer Part Number 1: GRM0335C1E270JA01D; Manufacturer 1: Murata; Supplier 1: Digi-Key; Supplier Part Number 1: 490-3150-1-ND; Value: 27pF
footprint CC1608-0603
simulation model CAP (Capacitor)
signal-integrity model Cap
footprint RESC0603L
footprint RESC1608L
footprint RESC3216L
footprint CAPC2512N
footprint 0603
footprint 0603_MOD
footprint 0402-TIGHT (For packing)
footprint 0402 Capacitor
footprint 0201_capacitor (0201 Standard Footprint)
pins: 1, 2

## GRM0335C1H1R2CA01D
designator C?, comment 1.2pF
CAP CER 1.2PF 25V NP0 0201; Manufacturer Part Number 1: GRM0335C1H1R2CA01D; Manufacturer 1: Murata; Supplier 1: Digi-Key; Supplier Part Number 1: 490-6119-1-ND; Value: 1.2pF
footprint CC1608-0603
simulation model CAP (Capacitor)
signal-integrity model Cap
footprint RESC0603L
footprint RESC1608L
footprint RESC3216L
footprint CAPC2512N
footprint 0603
footprint 0603_MOD
footprint 0402-TIGHT (For packing)
footprint 0402 Capacitor
footprint 0201_capacitor (0201 Standard Footprint)
pins: 1, 2

## GRM0335C1H3R3BA01D
designator C?, comment 3.3pF
CAP CER 3.3PF 50V NP0 0201; Manufacturer Part Number 1: GRM0335C1H3R3BA01D; Manufacturer 1: Murata; Supplier 1: Digi-Key; Supplier Part Number 1: 490-11328-1-ND; Value: 3.3pF
footprint CC1608-0603
simulation model CAP (Capacitor)
signal-integrity model Cap
footprint RESC0603L
footprint RESC1608L
footprint RESC3216L
footprint CAPC2512N
footprint 0603
footprint 0603_MOD
footprint 0402-TIGHT (For packing)
footprint 0402 Capacitor
footprint 0201_capacitor (0201 Standard Footprint)
pins: 1, 2

## GRM0335C1H3R6BA01D
designator C?, comment 3.6pF
CAP CER 3.6PF 50V NP0 0201; Manufacturer 1: Murata; Manufacturer Part Number 1: GRM0335C1H3R6BA01D; Supplier 1: Digi-Key; Supplier Part Number 1: 490-11329-1-ND; Value: 3.6pF
footprint CC1608-0603
simulation model CAP (Capacitor)
signal-integrity model Cap
footprint RESC0603L
footprint RESC1608L
footprint RESC3216L
footprint CAPC2512N
footprint 0603
footprint 0603_MOD
footprint 0402-TIGHT (For packing)
footprint 0402 Capacitor
footprint 0201_capacitor (0201 Standard Footprint)
pins: 1, 2

## GRM0335C1H6R8CA01D
designator C?, comment 6.8pF
CAP CER 6.8PF 50V NP0 0201; Manufacturer 1: Murata; Manufacturer Part Number 1: GRM0335C1H6R8CA01D; CMT Part Number: 100264; Supplier 1: Digi-Key; Supplier Part Number 1: 490-11341-1-ND; Value: 6.8pF
footprint CC1608-0603
simulation model CAP (Capacitor)
signal-integrity model Cap
footprint RESC0603L
footprint RESC1608L
footprint RESC3216L
footprint CAPC2512N
footprint 0603
footprint 0603_MOD
footprint 0402-TIGHT (For packing)
footprint 0402 Capacitor
footprint 0201_capacitor (0201 Standard Footprint)
pins: 1, 2

## GRM0335C1H101GA01D
designator C?, comment 100pF
CAP CER 100PF 50V NP0 0201; Manufacturer 1: Murata; Manufacturer Part Number 1: GRM0335C1H101GA01D; Supplier 1: Digi-Key; Supplier Part Number 1: 490-7751-1-ND; Value: 100pF
footprint CC1608-0603
simulation model CAP (Capacitor)
signal-integrity model Cap
footprint RESC0603L
footprint RESC1608L
footprint RESC3216L
footprint CAPC2512N
footprint 0603
footprint 0603_MOD
footprint 0402-TIGHT (For packing)
footprint 0402 Capacitor
footprint 0201_capacitor (0201 Standard Footprint)
pins: 1, 2

## GRM0335C1H330JA01D
designator C?, comment 33pF
CAP CER 33PF 50V NP0 0201; Manufacturer Part Number 1: GRM0335C1H330JA01D; Manufacturer 1: Murata; Supplier 1: Digi-Key; Supplier Part Number 1: 490-6126-1-ND; Value: 33pF
footprint CC1608-0603
simulation model CAP (Capacitor)
signal-integrity model Cap
footprint RESC0603L
footprint RESC1608L
footprint RESC3216L
footprint CAPC2512N
footprint 0603
footprint 0603_MOD
footprint 0402-TIGHT (For packing)
footprint 0402 Capacitor
footprint 0201_capacitor (0201 Standard Footprint)
pins: 1, 2

## GRM0335C1H470JA01D
designator C?, comment 47pF
CAP CER 47PF 50V NP0 0201; Manufacturer Part Number 1: GRM0335C1H470JA01D; Manufacturer 1: Murata; Value: 47pF
footprint CC1608-0603
simulation model CAP (Capacitor)
signal-integrity model Cap
footprint RESC0603L
footprint RESC1608L
footprint RESC3216L
footprint CAPC2512N
footprint 0603
footprint 0603_MOD
footprint 0402-TIGHT (For packing)
footprint 0402 Capacitor
footprint 0201_capacitor (0201 Standard Footprint)
pins: 1, 2

## H3194-05
designator P?
PC BOARD SOCKET WITH PC TAIL; Manufacturer 1: Harwin; Manufacturer Part Number 1: H3194-05; Supplier 1: Digi-Key; Supplier Part Number 1: H3194-05-ND; Supplier 2: Mouser; Supplier Part Number 2: 855-H3194-05; Value: H3194-05
footprint H3194-05 (PC BOARD SOCKET WITH PC TAIL)
pins: 1

## HEADER-3
designator P6, comment HEADER3
CONN HEADER FEMALE 3POS .1" GOLD; Manufacturer 1: Sullins; Manufacturer Part Number 1: PPPC031LFBN-RC; Value: HEADER3; Supplier 1: Digi-Key; Supplier Part Number 1: S7036-ND
footprint HDR1X3 (Connector; Header; 3 Position)
signal-integrity model Connector
pins: 1, 2, 3

## HEADER-3_1
designator P6, comment HEADER3
CONN HEADER MALE 3POS .1" GOLD; Manufacturer 1: Sullins; Manufacturer Part Number 1: PBC03SAAN; Value: HEADER3; Supplier 1: Digi-Key; Supplier Part Number 1: S1011E-03-ND
footprint HDR1X3 (Connector; Header; 3 Position)
signal-integrity model Connector
pins: 1, 2, 3

## HEADER-5
designator P8
CONN HEADER FEMALE 5POS .1" GOLD; Manufacturer 1: Sullins; Manufacturer Part Number 1: PPPC051LFBN-RC; Value: HEADER5; Supplier 1: Digi-Key; Supplier Part Number 1: S7038-ND
footprint HDR1X5 (Connector; Header; 5 Position)
signal-integrity model Connector
pins: 1, 2, 3, 4, 5

## HHM1596A1
designator T?
FILTER BALUN 3.1-4.9GHZ; Manufacturer 1: TDK; Part Type: Balun; Value: HHM1596A1; Manufacturer Part Number 1: HHM1596A1; Supplier 1: Digi-Key; Supplier Part Number 1: 445-3386-1-ND
footprint BALUN-0896BM15A
footprint GE0805-C-1 (Mini-Circuits 6-pin 0805-size device)
pins: 1 UBAL, 2 GND, 3 BAL1, 4 BAL2, 5 GND, 6 NC

## HLE-103-02-G-DV-BE
designator J?
CONN RECEPT 6POS DL SMD; Manufacturer 1: Samtec; Manufacturer Part Number 1: HLE-103-02-G-DV-BE; Value: HLE-103-02-G-DV-BE; Part Type: Connector
footprint HDR2X5 (Connector; Header; 5x2 Position)
signal-integrity model Connector
footprint HLE-103-02-G-DV-BE (Samtec HLE-103-02-G-DV-BE)
pins: 1, 2, 3, 4, 5, 6

## HLE-105-02-G-DV-BE
designator J?
CONN RECEPT 10POS DL SMD; Manufacturer 1: Samtec; Manufacturer Part Number 1: HLE-105-02-G-DV-BE; Value: HLE-105-02-G-DV-BE; Part Type: Connector
footprint HDR2X5 (Connector; Header; 5x2 Position)
signal-integrity model Connector
footprint HLE-105-02-G-DV-BE (Samtec HLE-105-02-G-DV-BE)
pins: 1, 2, 3, 4, 5, 6, 7, 8, 9, 10

## HLE-107-02-G-DV-BE
designator J?
CONN RECEPT 14POS DL SMD; Manufacturer 1: Samtec; Manufacturer Part Number 1: HLE-107-02-G-DV-BE; Value: HLE-107-02-G-DV-BE; Part Type: Connector; Supplier 1: Digi-Key; Supplier Part Number 1: HLE-107-02-G-DV-BE-A-ND
footprint HDR2X5 (Connector; Header; 5x2 Position)
signal-integrity model Connector
footprint HLE-107-02-G-DV-BE (Samtec HLE-107-02-G-DV-BE)
pins: 1, 2, 3, 4, 5, 6, 7, 8, 9, 10, 11, 12, 13, 14

## HMC326MS8GE
designator U?
IC HBT DVR AMP 3.5GHZ 8-MSOP; Supplier 1: Digi-Key; Supplier 2: Arrow; Supplier Part Number 1: 1127-1333-ND; Supplier Part Number 2: X6h3u0vxn9PtVAFkRTg5YzmHswu_Lk-BXJ1u03HcqQU; Value: HMC326MS8GE; Manufacturer Part Number 1: HMC326MS8GE
pins: 1 VPD (in), 2 GND (power), 3 RFIN (in), 4 GND (power), 5 GND (power), 6 RFOUT (out), 7 GND (power), 8 VCC (power)

## HMC716LP3E
designator U?, comment HMC716LP3ETR
IC MMIC AMP LNA PHEMT 16-QFN; Manufacturer 1: Analog Devices; Manufacturer Part Number 1: HMC716LP3ETR; Supplier 1: Digi-Key; Supplier 2: Arrow; Supplier Part Number 1: 1127-3024-ND; Supplier Part Number 2: HvWL3cYLUFTx9EFm6MunTLKTCckuM4cx2NuPPy9JYtI; Value: HMC716LP3ETR
footprint QFN50P300X300X100_HS-17N (QFN, 16-Leads, Body 3.00x3.00mm, Pitch 0.50mm, Thermal Pad 1.70x1.70mm, IPC Medium Density)
pins: 2 IN, 8 RES, 11 OUT, 15 VDD, 17 GND

## HOLE
designator Z?  (mechanical)
PCB HOLE; Manfucturer 1: N/A; Manfucturer Part Number 1: N/A; Value: HOLE
footprint MTG-070-NP (Non-plated .070" hole)
footprint MTG-100X175 (Plated .100" hole, .175" pad)
footprint MTG-120-NP (Non-plated .120" hole)
footprint MTG-200-NP (Non-plated .200" hole)
footprint MTG-087-NP (Non-plated .087" hole)
pins: 1

## INA219AIDR
designator U?
IC CURRENT MONITOR 1% 8SOIC; Manufacturer: Texas Instruments; ComponentLink2Description: Datasheet; ComponentLink3Description: Package Specification; ComponentLink2URL: http://www.ti.com/general/docs/lit/getliterature.tsp?genericPartNumber=INA219&fileType=pdf; ComponentLink1Description: Manufacturer URL; ComponentLink1URL: http://www.ti.com/; ComponentLink3URL: http://www.ti.com/lit/ml/msoi002j/msoi002j.pdf; Supplier: Digi-Key; Supplier Part Number: 296-23978-2-ND; Manufacturer Part Number: INA219AIDR
footprint D0008A_N (SOIC, 8-Leads, Body 5x4mm, Pitch 1.27mm, IPC Medium Density)
footprint D0008A_L (SOIC, 8-Leads, Body 5x4mm, Pitch 1.27mm, IPC High Density)
footprint D0008A_M (SOIC, 8-Leads, Body 5x4mm, Pitch 1.27mm, IPC Low Density)
pins: 1 A1 (in) "Address pin.", 2 A0 (in) "Address pin.", 3 SDA (io) "Serial bus data line.", 4 SCL (io) "Serial bus clock line.", 5 VS (power) "Power supply, 3V to 5.5V.", 6 GND (power) "Ground.", 7 VIN- (in) "Negative differential shunt voltage. Connect to negative side of shunt resistor. Bus voltage is measured from this pin to ground.", 8 VIN+ (in) "Positive differential shunt voltage. Connect to positive side of shunt resistor."

## IND-0-OHM-JUMPER-0201
designator L?, comment 0R
RES SMD 0.0OHM JUMPER 1/20W 0201; Manufacturer Part Number 1: ERJ-1GN0R00C; Manufacturer 1: Panasonic; Supplier 1: Digi-Key; Supplier Part Number 1: P15979TR-ND; Supplier 2: Newark; Supplier Part Number 2: 51W5934; Value: 0R
footprint 0201 (0201 Standard Footprint)
footprint 0201_capacitor (0201 Standard Footprint)
pins: 1, 2

## IND-0-OHM-JUMPER-0402
designator L?, comment 0R
RES 0.0 OHM 1/10W JUMP 0402 SMD; Manufacturer Part Number 1: ERJ-2GE0R00X; Manufacturer 1: Panasonic; Supplier 1: Digi-Key; Supplier Part Number 1: P0.0JCT-ND; Supplier 2: Mouser; Supplier Part Number 2: 667-ERJ-2GE0R00X; Value: 0R
footprint 0402 Resistor
footprint RESC0603N (Chip Resistor, Body 0.6x0.3mm, IPC Medium Density)
footprint 1005[0402] (Chip Resistor; Body 1.1 x 0.5 mm (LxW typ))
footprint 0402 Resistor
pins: 1, 2

## IND-DNI-0402
designator L?, comment DNI
IND NOT INSTALLED 0402; Manufacturer 1: NONE; Manufacturer Part Number 1: NOT INSTALLED; Value: DNI
footprint 0402 (0402 Standard Footprint)
pins: 1, 2

## IND-LQM18PN2R2MGH
designator L?, comment 2.2uH
IND SMD 2.2uH 20% 0603; Manufacturer 1: MURATA; Manufacturer Part Number 1: LQM18PN2R2MGH; CMT Part Number: 100236; Tolerance: 20%; Value: 2.2uH; Supplier 1: Digi-Key; Supplier Part Number 1: 490-14478-2-ND
footprint 0603CS Inductor
pins: 1, 2

## IS25WP032D-JBLE
designator U?
IC FLASH 32M SPI 133MHZ 8SOIC; Manufacturer 1: ISSI; Value: IS25WP032D-JBLE; Manufacturer Part Number 1: IS25WP032D-JBLE; Supplier 1: Digi-Key; Supplier Part Number 1: 706-1615-ND; Supplier 2: Mouser; Supplier Part Number 2: 870-IS25WP032D-JBLE
footprint SOIC127P790X216-8N (SOIC, 8-Leads, Body 5.28x5.28mm, Pitch 1.27mm, IPC Medium Density)
pins: 1 ~{CS} (in), 2 DO/IO1 (io), 3 ~{WP}/IO2 (io), 4 GND (power), 5 DI/IO0 (io), 6 CLK (in), 7 ~{HOLD}/IO3 (io), 8 VCC (power)

## IS25WQ040
designator U?
IC FLASH 4MBIT 104MHZ 8SOP; Manufacturer 1: ISSI; Manufacturer Part Number 1: IS25WQ040-JNLE; CMT Part Number: 100205; Value: IS25WQ040; Supplier 1: Digi-Key; Supplier Part Number 1: IS25WQ040-JNLE-ND; Supplier 2: Mouser; Supplier Part Number 2: 870-IS25WQ040-JNLE
footprint SOIC127P620X175-8N (SOIC, 8-Leads, Body 5.00x4.00mm, Pitch 1.27mm, IPC Medium Density)
pins: 1 ~{CS} (in), 2 DO/IO1 (io), 3 ~{WP}/IO2 (io), 4 GND (power), 5 DI/IO0 (io), 6 CLK (in), 7 ~{HOLD}/IO3 (io), 8 VCC (power)

## IS42VM16320E-6BLI
designator U?
IC DRAM 512M PARALLEL 54TFBGA; Manufacturer 1: ISSI; CMT Part Number: 100206; Value: IS42VM16320E-6BLI; Manufacturer Part Number 1: IS42VM16320E-6BLI; Manufacturer 2: Alliance Memory; Manufacturer Part Number 2: AS4C32M16MSA-6BIN; Supplier 1: Mouser; Supplier Part Number 1: 870-IS42VM16320E6BLI; Supplier 2: Digi-Key; Supplier Part Number 2: 1450-1459-ND
footprint TFBGA-54
pins: A1 VSS (power), A2 DQ15, A3 VSSQ (power), A7 VDDQ (power), A8 DQ0, A9 VDD (power), B1 DQ14, B2 DQ13, B3 VDDQ (power), B7 VSSQ (power), B8 DQ2, B9 DQ1, C1 DQ12, C2 DQ11, C3 VSSQ (power), C7 VDDQ (power), C8 DQ4, C9 DQ3, D1 DQ10, D2 DQ9, D3 VDDQ (power), D7 VSSQ (power), D8 DQ6, D9 DQ5, E1 DQ8, E2 NC, E3 VSS (power), E7 VDD (power), E8 DQM0, E9 DQ7, F1 DQM1, F2 CLK, F3 CKE, F7 CAS#, F8 RAS#, F9 WE#, G1 A12, G2 A11, G3 A9, G7 BA0, G8 BA1, G9 CS#, H1 A8, H2 A7, H3 A6, H7 A0, H8 A1, H9 A10, J1 VSS (power), J2 A5, J3 A4, J7 A3, J8 A2, J9 VDD (power)

## ISL21080CIH333Z-TK
designator U?
IC PREC V-REF 3.3V LN SOT23-3; Manufacturer 1: Intersil; Manufacturer Part Number 1: ISL21080CIH333Z-TK; Value: ISL21080CIH333Z-TK; Supplier 1: Digi-Key; Supplier Part Number 1: ISL21080CIH333Z-TKCT-ND
footprint SOT-23-3
pins: 1 VIN (in), 2 VOUT (out), 3 GND (power)

## ISL60002CIH330Z-TK
designator U?
IC PREC V-REF 3.0V LN SOT23-3; Manufacturer 1: Intersil; Manufacturer Part Number 1: ISL60002CIH330Z-TK; Value: ISL60002CIH330Z-TK; Supplier 1: Digi-Key; Supplier Part Number 1: ISL60002CIH330Z-TKCT-ND; Supplier 2: Mouser; Supplier Part Number 2: 968-ISL60002CIH330ZT
footprint SOT23 (SOT-23; 3 Leads; Body 3.1 x 2.5 mm, inc. leads (LxW max), Alternate Lead Configuration)
pins: 1 DNC (io) hidden, 1 VIN (in), 2 VOUT (out), 3 GND (power), 7 NC (io) hidden, 8 DNC (io) hidden

## IVT2105FE
designator X?  Frequency: 26.0000MHz  (hidden comment: IVT2105FE)
VCTCXO 10.000MHZ 1.8V 1PPM; Manufacturer Part Number 1: IVT2105FE 26.000 MHz; Manufacturer 1: Rakon; Value: IVT2105FE
footprint DFN95P160X100-4N (DFN, 4-Leads, Body 2.00x1.60mm, Pitch 0.95mm, IPC Medium Density)
pins: 1 VCO, 2 GND, 3 OUT, 4 VDD

## JMK105BBJ475MV-F
designator C?, comment 4.7uF
CAP CER 4.7UF 6.3V 20% X5R 0402; Manufacturer 1: Taiyo Yuden; Manufacturer Part Number 1: JMK105BBJ475MV-F; Part Type: Chip Capacitor; Supplier 1: Digi-Key; Supplier Part Number 1: 587-2787-2-ND; Supplier 2: Mouser; Supplier Part Number 2: 963-JMK105BBJ475MV-F; Value: 4.7uF
footprint CAPC3216L (Chip Capacitor, Body 3.2x1.6mm, IPC High Density)
footprint CAPC1005L (Chip Capacitor, Body 1.0x0.5mm, IPC High Density)
footprint CAPC2512L (Chip Capacitor, Body 2.54x1.27mm, IPC High Density)
footprint CAPC1608L (Chip Capacitor, Body 1.6x0.8mm, IPC High Density)
footprint CAPC3225L (Chip Capacitor, Body 3.2x2.5mm, IPC High Density)
simulation model CAP (Semiconductor Capacitor)
signal-integrity model Cap Semi
footprint 01005-TIGHT
footprint 0201-TIGHT
footprint 0402-TIGHT (For packing)
footprint 0402 Capacitor
pins: 1, 2

## JMK105BJ105KV-F
designator C?, comment 1uF
CAP CER 1UF 6.3V 10% X5R 0402; Manufacturer 1: Taiyo Yuden; Manufacturer Part Number 1: JMK105BJ105KV-F; Part Type: Chip Capacitor; Supplier 1: Digi-Key; Supplier Part Number 1: 587-1231-1-ND; Supplier 2: Mouser; Supplier Part Number 2: 963-JMK105BJ105KV-F; Value: 1uF
footprint CAPC3216L (Chip Capacitor, Body 3.2x1.6mm, IPC High Density)
footprint CAPC1005L (Chip Capacitor, Body 1.0x0.5mm, IPC High Density)
footprint CAPC2512L (Chip Capacitor, Body 2.54x1.27mm, IPC High Density)
footprint CAPC1608L (Chip Capacitor, Body 1.6x0.8mm, IPC High Density)
footprint CAPC3225L (Chip Capacitor, Body 3.2x2.5mm, IPC High Density)
simulation model CAP (Semiconductor Capacitor)
signal-integrity model Cap Semi
footprint 01005-TIGHT
footprint 0201-TIGHT
footprint 0402-TIGHT (For packing)
footprint 0402 Capacitor
pins: 1, 2

## JMK105BJ225MV-F
designator C?, comment 2.2uF
CAP CER 2.2UF 6.3V 20% X5R 0402; Manufacturer 1: Taiyo Yuden; Manufacturer Part Number 1: JMK105BJ225MV-F; Part Type: Chip Capacitor; Supplier 1: Digi-Key; Supplier Part Number 1: 587-1453-1-ND; Supplier 2: Mouser; Supplier Part Number 2: 963-JMK105BJ225MV-F; Value: 2.2uF
footprint CAPC3216L (Chip Capacitor, Body 3.2x1.6mm, IPC High Density)
footprint CAPC1005L (Chip Capacitor, Body 1.0x0.5mm, IPC High Density)
footprint CAPC2512L (Chip Capacitor, Body 2.54x1.27mm, IPC High Density)
footprint CAPC1608L (Chip Capacitor, Body 1.6x0.8mm, IPC High Density)
footprint CAPC3225L (Chip Capacitor, Body 3.2x2.5mm, IPC High Density)
simulation model CAP (Semiconductor Capacitor)
signal-integrity model Cap Semi
footprint 01005-TIGHT
footprint 0201-TIGHT
footprint 0402-TIGHT (For packing)
footprint 0402 Capacitor
pins: 1, 2

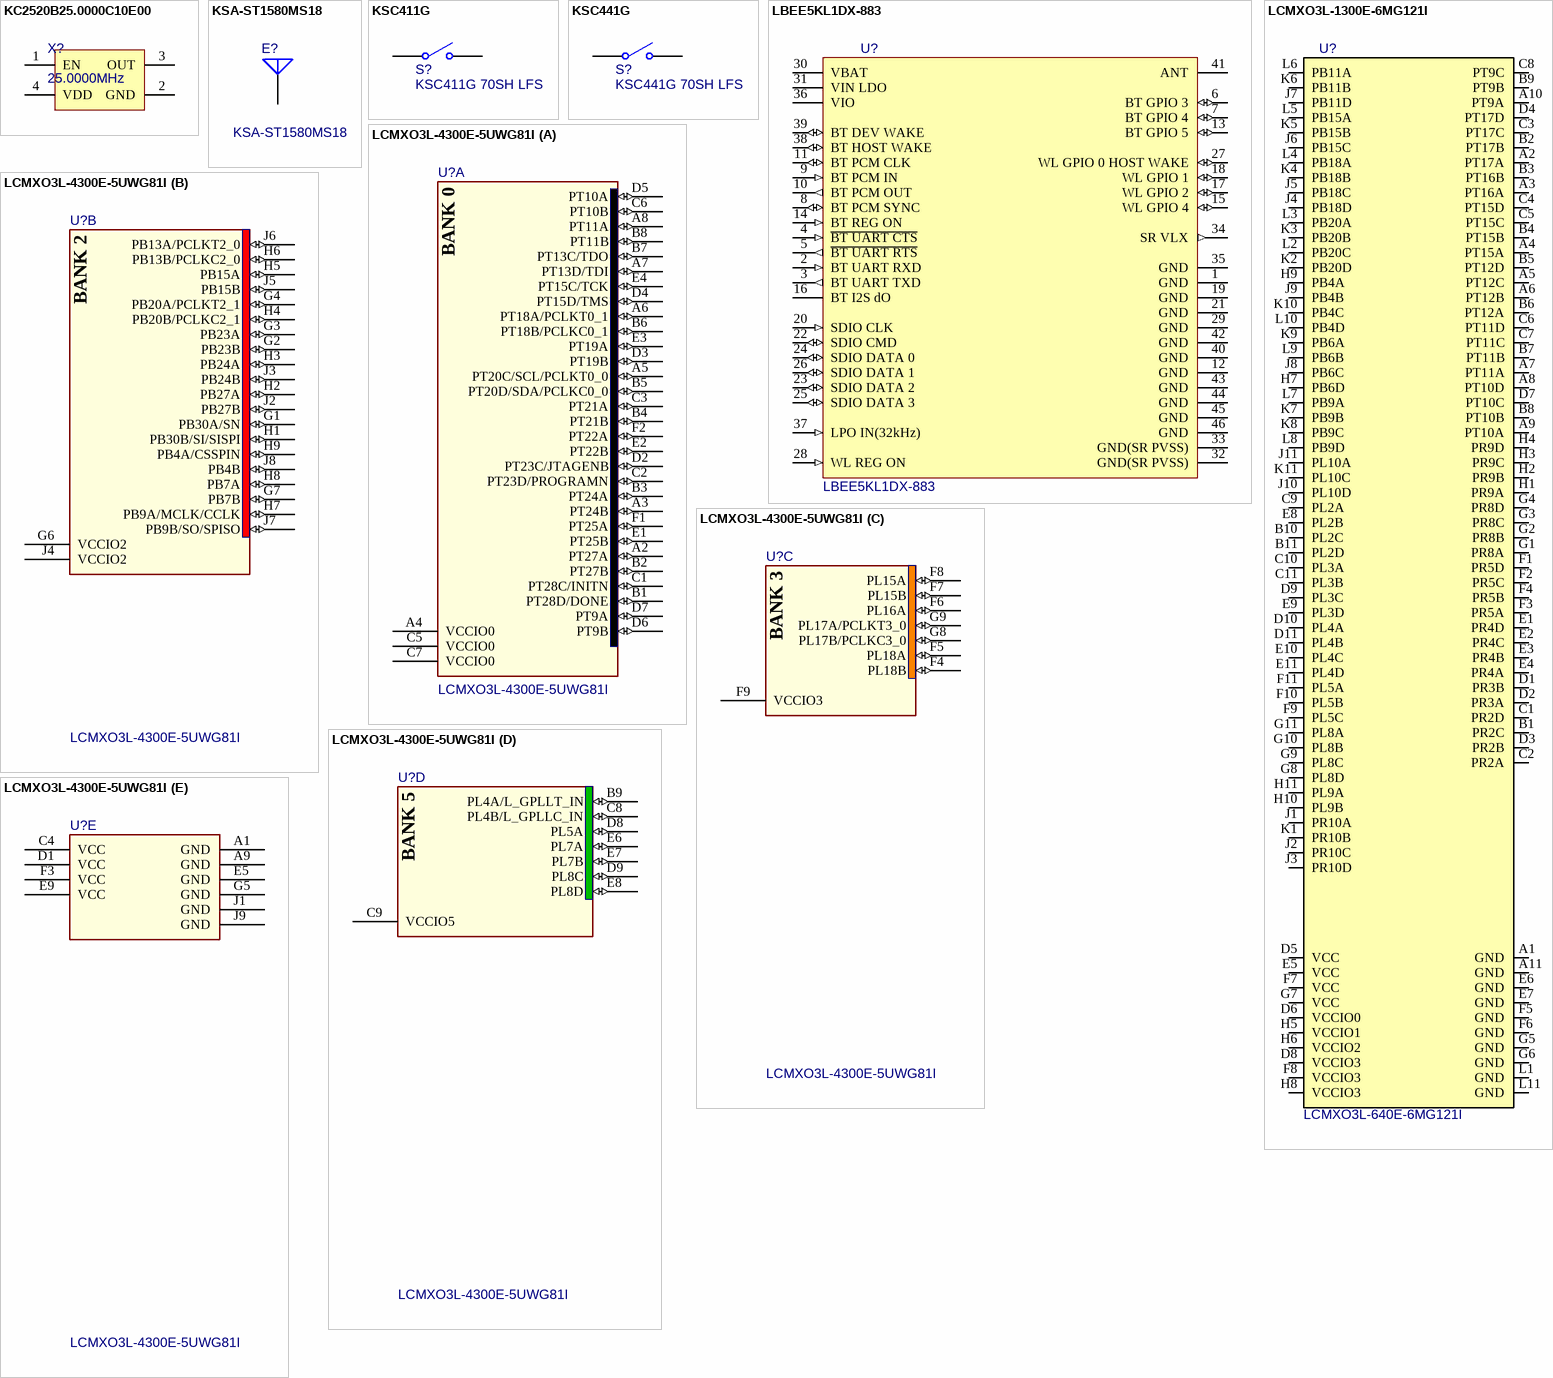
[diagram p9: symbols KC2520B25.0000C10E00 to LCMXO3L-4300E-5UWG81I]

## KC2520B25.0000C10E00
designator X?, comment 25.0000MHz
OSC XO 25.000MHZ CMOS SMD; Manufacturer Part Number 1: KC2520B25.0000C10E00; Manufacturer 1: Kyocera; Value: 25.0000MHz; Supplier 1: Digi-Key; Supplier Part Number 1: 478-4780-1-ND
footprint DFN90P200X70-4N (DFN, 4-Leads, Body 2.50x2.00mm, Pitch 0.90mm, IPC Medium Density)
pins: 1 EN, 2 GND, 3 OUT, 4 VDD

## KSA-ST1580MS18
designator E?
ANTENNA PATCH GPS PIN FED; Manufacturer 1: Shanshin; Manufacturer Part Number 1: KSA-ST1580MS18; Value: KSA-ST1580MS18; Supplier 1: Digi-Key; Supplier Part Number 1: 931-1019-ND; Supplier 2: Mouser; Supplier Part Number 2: 960-GP1575184A02
footprint GP.1575.18.4.A.02 (ANTENNA PATCH GPS PIN FED)
pins: 1 A